# Altium schematic symbol library SCH - POWER - LINEAR VREG - TI LP2951-33DRG.SchLib: 1 symbol
Pins are listed as number, name and electrical type; pins without a type are passive.

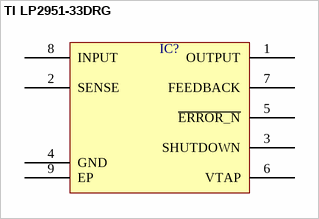
[diagram p0: symbol TI LP2951-33DRG]

## TI LP2951-33DRG
designator IC?  (value not drawn)
pins: 1 OUTPUT, 2 SENSE, 3 SHUTDOWN, 4 GND, 5 ~{ERROR_N}, 6 VTAP, 7 FEEDBACK, 8 INPUT, 9 EP